# EAGLE library part FPF2280 (library m_ic-power)
The FPF2280 features a low-RON internal FET and an operating range of 2.5 VDC to 5.5 VDC (absolute maximum of 29 VDC). An internal clamp is capable of shunting surge voltages >100 V, protecting downstream components and enhancing system robustness. The FPF2280 features over-voltage protection that powers down the internal FET if the input voltage exceeds the OVP threshold. The OVP threshold is adjustable with optional external resistors. Over-temperature protection also powers down the device at 130°C (typical). Exceptionally low off-state current (<1 μA maximum) facilitates compliance with standby power requirements. The FPF2280 is available in a fully “green” compliant 1.3 mm × 1.8 mm Wafer-Level Chip-Scale Package (WLCSP) with backside laminate. http://www.onsemi.com/pub/Collateral/FPF2280-D.PDF
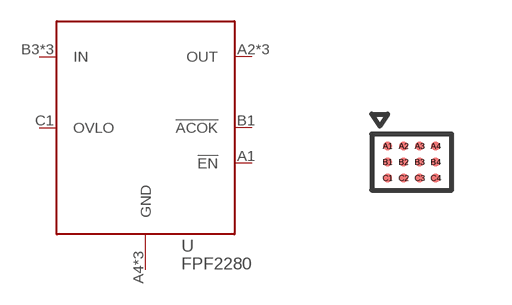
[diagram p12: symbol with the pads of WLCSP-12; footprint WLCSP-12]

Designator prefix U

## FPF2280WLCPS12 (MANUF: OnSemi; PARTNUM: FPF2280BUCX - F130)  [WLCSP-12]
A1  !EN
A2  OUT
A3  OUT
A4  GND
B1  !ACOK
B2  OUT
B3  IN
B4  GND
C1  OVLO
C2  IN
C3  IN
C4  GND

## Footprint WLCSP-12 (pad centres in mm)
smd 0.215 x 0.215: A1 -0.6,0.4; A2 -0.2,0.4; A3 0.2,0.4; A4 0.6,0.4; B1 -0.6,0; B2 -0.2,0; B3 0.2,0; B4 0.6,0; C1 -0.6,-0.4; C2 -0.2,-0.4; C3 0.2,-0.4; C4 0.6,-0.4